# Altium schematic symbol library W25P32-VMW6TG.SchLib: 1 symbol
Pins are listed as number, name and electrical type; pins without a type are passive.

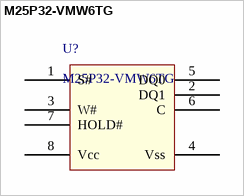
[diagram p0: symbol M25P32-VMW6TG]

## M25P32-VMW6TG
designator U?
footprint SOIC-8W (SPI_FLASH)
pins: 1 S#, 2 DQ1, 3 W#, 4 Vss, 5 DQ0, 6 C, 7 HOLD#, 8 Vcc